# Altium footprint library SWITCH.PCBLIB: 95 footprints (part 2 of 6)
Each footprint in its own frame and in the unit in brackets; x right, y up, seen from the top. Pads: shape width x height; smd on the part's side, far side on the other; paste and mask are expansions set on the pad; w line width, h text height; cw(c..) or ccw(c..) is an arc to the next point about the centre after c.
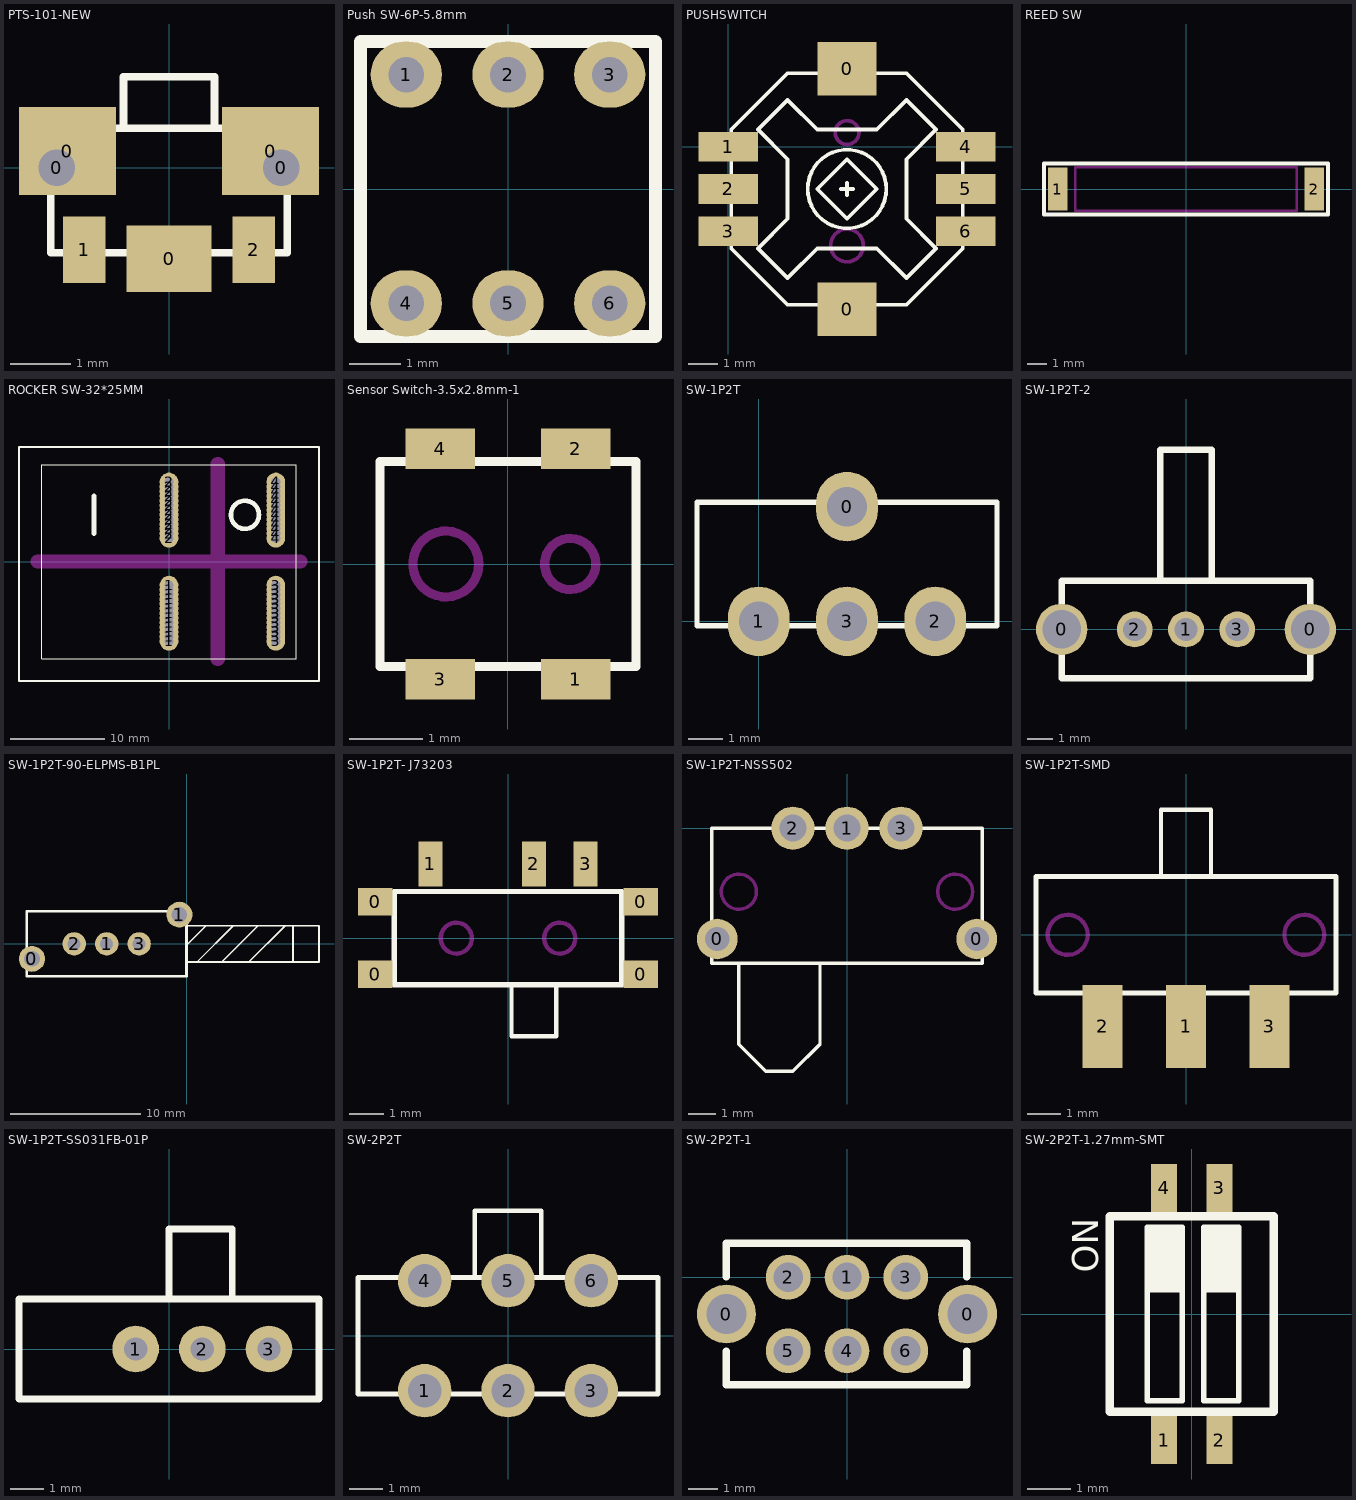
[diagram p1: the footprints below, top view; thin cyan lines are the x and y axes]

## PTS-101-NEW [mm] "PTS-101-NEW"
pads (7):
  round 0.7 hole 0.6: 0(-1.85,0) 0(1.85,0)
  rect 1.6x1.45 smd: 0(-1.675,0.275) 0(1.675,0.275)
  rect 1.4x1.1 smd: 0(0,-1.5)
  rect 0.7x1.1 smd: 1(-1.4,-1.35) 2(1.4,-1.35)
TopOverlay:
  lines w0.127: -0.75,0.65 -0.75,1.5 0.75,1.5 0.75,0.65 ; 1.95,-1.4 -1.95,-1.4 -1.95,0.65 1.95,0.65 1.95,-1.375

## Push SW-6P-5.8mm [mm] "Push SW-6P-5.8mm"
pads (6):
  oval 1.4x1.3 hole 0.7: 1(-2,2.25) 2(0,2.25) 3(2,2.25) 4(-2,-2.25) 5(0,-2.25) 6(2,-2.25)
TopOverlay:
  lines w0.254: -2.9,-2.9 -2.9,2.9 2.9,2.9 2.9,-2.9 -2.9,-2.9

## PUSHSWITCH [mm]
pads (8):
  rect 2x1.8 smd: 0(4,-5.475) 0(4,2.625)
  rect 2x1 smd: 1(0,0) 2(0,-1.425) 3(0,-2.85) 4(8,0) 5(8,-1.425) 6(8,-2.85)
TopOverlay:
  circle w0.127: c4,-1.425 r1.324
  lines w0.127: 3.8,-1.425 4.2,-1.425 ; 4,-1.625 4,-1.225 ; 6,1.575 5,0.575 3,0.575 2,1.575 1,0.575 2,-0.425 2,-2.425 1,-3.425 2,-4.425 3,-3.425 5,-3.425 6,-4.425 7,-3.425 6,-2.425 6,-0.425 7,0.575 ; 6,1.575 6,1.575 ; 6,1.575 7,0.575 ; 7,0.575 7,0.575 ; 0.1,-3.425 2,-5.325 6,-5.325 7.9,-3.425 7.9,0.575 6,2.475 2,2.475 0.1,0.575 0.1,-3.425 ; 3,-1.425 4,-0.425 5,-1.425 4,-2.425 3,-1.425
KeepOutLayer:
  circle w0.127: c4,0.475 r0.4
  circle w0.127: c4,-3.325 r0.55

## REED SW [mm]
pads (2):
  rect 1x2.2 smd: 1(-6.5,0) 2(6.5,0)
TopOverlay:
  lines w0.2: -7.2,-1.3 7.2,-1.3 7.2,1.3 -7.2,1.3 -7.2,-1.3
KeepOutLayer:
  lines w0.127: -5.6,-1.1 5.6,-1.1 5.6,1.1 -5.6,1.1 -5.6,-1.1

## ROCKER SW-32*25MM [mm]
pads (52):
  round 2 hole 1: 1(0,-8.5) 1(0,-8) 1(0,-7.5) 1(0,-7) 1(0,-6.5) 1(0,-6) 1(0,-5.5) 1(0,-5) 1(0,-4.5) 1(0,-4) 1(0,-3.5) 1(0,-3) 1(0,-2.5) 2(0,2.5) 2(0,3) 2(0,3.5) 2(0,4) 2(0,4.5) 2(0,5) 2(0,5.5) 2(0,6) 2(0,6.5) 2(0,7) 2(0,7.5) 2(0,8) 2(0,8.5) 3(11.4,-8.5) 3(11.4,-8) 3(11.4,-7.5) 3(11.4,-7) 3(11.4,-6.5) 3(11.4,-6) 3(11.4,-5.5) 3(11.4,-5) 3(11.4,-4.5) 3(11.4,-4) 3(11.4,-3.5) 3(11.4,-3) 3(11.4,-2.5) 4(11.4,2.5) 4(11.4,3) 4(11.4,3.5) 4(11.4,4) 4(11.4,4.5) 4(11.4,5) 4(11.4,5.5) 4(11.4,6) 4(11.4,6.5) 4(11.4,7) 4(11.4,7.5) 4(11.4,8) 4(11.4,8.5)
TopOverlay:
  circle w0.5: c8.1,5 r1.5
  lines w0.127: -13.6,-10.35 13.6,-10.35 13.6,10.35 -13.6,10.35 -13.6,-10.35
  lines w0.2: -16,-12.75 -16,12.25 16,12.25 16,-12.75 -16,-12.75
  lines w0.5: -8,3 -8,7
KeepOutLayer:
  lines w1.5: -14,0 14,0 ; 5.2,-10.4 5.2,10.4

## Sensor Switch-3.5x2.8mm-1 [mm] "Sensor Switch-3.5x2.8mm-1"
pads (4):
  rect 0.95x0.55 smd: 1(0.925,-1.575) 2(0.925,1.575) 3(-0.925,-1.575) 4(-0.925,1.575)
TopOverlay:
  lines w0.127: -1.75,-1.4 -1.75,1.4 1.75,1.4 1.75,-1.4 -1.75,-1.4
KeepOutLayer:
  circle w0.127: c0.85,0 r0.35
  circle w0.127: c-0.85,0 r0.45

## SW-1P2T [mil]
pads (4):
  oval 70x78.74 hole 45: 0(100,130) 1(0,0) 2(200,0) 3(100,0.04)
TopOverlay:
  lines w6: -70,-5 270,-5 270,135 -70,135 -70,-5

## SW-1P2T-2 [mm]
pads (5):
  round 2 hole 1.5: 0(-4.85,0) 0(4.85,0)
  round 1.4 hole 0.9: 1(0,0) 2(-2,0) 3(2,0)
TopOverlay:
  lines w0.254: -1,1.9 -1,7 1,7 1,1.9 ; -4.85,-1.9 4.85,-1.9 4.85,1.9 -4.85,1.9 -4.85,-1.9

## SW-1P2T-90-ELPMS-B1PL [mm]
pads (5):
  round 2 hole 1.2: 0(-11.9,-1.15) 1(-0.55,2.25)
  round 1.8 hole 1: 1(-6.15,0) 2(-8.65,0) 3(-3.65,0)
TopOverlay:
  lines w0.127: 0,-1.4 10.2,-1.4 10.2,1.4 0,1.4 ; 0,-0.1 1.5,1.4 ; 0.8,-1.4 3.6,1.4 ; 2.7,-1.4 5.5,1.4 ; 4.8,-1.4 7.6,1.4 ; 8.2,-1.4 8.2,1.4
  lines w0.2: -12.3,-2.5 0,-2.5 0,2.5 -12.3,2.5 -12.3,-2.5

## SW-1P2T- J73203 [mm] "SW-1P2T- J73203"
pads (7):
  rect 1x0.8 smd: 0(-3.85,-1.05) 0(-3.85,1.05) 0(3.85,-1.05) 0(3.85,1.05)
  rect 0.7x1.3 smd: 1(-2.25,2.15) 2(0.75,2.15) 3(2.25,2.15)
TopOverlay:
  lines w0.127: 0.1,-1.35 0.1,-2.85 1.4,-2.85 1.4,-1.35
  lines w0.152: -3.3,-1.35 -3.3,1.35 3.3,1.35 3.3,-1.35 -3.3,-1.35
KeepOutLayer:
  circle w0.127: c-1.5,0 r0.45
  circle w0.127: c1.5,0 r0.45

## SW-1P2T-NSS502 [mm]
pads (5):
  round 1.5 hole 0.9: 0(-4.8,-4.1) 0(4.8,-4.1)
  round 1.6 hole 1: 1(0,0) 2(-2,0) 3(2,0)
TopOverlay:
  lines w0.127: -4,-5 -4,-8 -3,-9 -2,-9 -1,-8 -1,-5 ; -5,-5 -5,0 5,0 5,-5 -5,-5
KeepOutLayer:
  circle w0.127: c-4,-2.35 r0.65
  circle w0.127: c4,-2.35 r0.65

## SW-1P2T-SMD [mm]
pads (3):
  rect 1.2x2.5 smd: 1(0,-2.75) 2(-2.5,-2.75) 3(2.5,-2.75)
TopOverlay:
  lines w0.127: -0.75,1.75 -0.75,3.75 0.75,3.75 0.75,1.75
  lines w0.152: -4.5,-1.75 -4.5,1.75 4.5,1.75 4.5,-1.75 -4.5,-1.75
KeepOutLayer:
  circle w0.127: c-3.55,0 r0.6
  circle w0.127: c3.55,0 r0.6

## SW-1P2T-SS031FB-01P [mm]
pads (3):
  round 1.4 hole 0.7: 1(-1,0) 2(1,0) 3(3,0)
TopOverlay:
  lines w0.2: 0,1.5 0,3.6 1.9,3.6 1.9,1.5 ; -4.5,-1.5 4.5,-1.5 4.5,1.5 -4.5,1.5 -4.5,-1.5

## SW-2P2T [mm]
pads (6):
  round 1.6 hole 1: 1(-2.5,-1.65) 2(0,-1.65) 3(2.5,-1.65) 4(-2.5,1.65) 5(0,1.65) 6(2.5,1.65)
TopOverlay:
  lines w0.127: -1,1.75 -1,3.75 1,3.75 1,1.75
  lines w0.152: -4.5,-1.75 4.5,-1.75 4.5,1.75 -4.5,1.75 -4.5,-1.75

## SW-2P2T-1 [mm]
pads (8):
  round 2 hole 1.35: 0(-4.1,-1.25) 0(4.1,-1.25)
  round 1.524 hole 1: 1(0,0) 2(-2,0) 3(2,0) 4(0,-2.5) 5(-2,-2.5) 6(2,-2.5)
TopOverlay:
  lines w0.254: -4.1,-2.52 -4.1,-3.65 4.079,-3.65 4.079,-2.52 ; -4.1,0.02 -4.1,1.15 4.079,1.15 4.079,0.02

## SW-2P2T-1.27mm-SMT [mm] "SW-2P2T-1.27mm-SMT"
pads (4):
  rect 0.6x1.1 smd: 1(-0.635,-2.9) 2(0.635,-2.9) 3(0.635,2.9) 4(-0.635,2.9)
TopOverlay:
  rectangle: -1.02,0.5 -0.22,2
  rectangle: 0.28,0.5 1.08,2
  lines w0.127: -1.02,-2 -1.02,2 -0.22,2 -0.22,-2 -1.02,-2 ; 0.28,-2 0.28,2 1.08,2 1.08,-2 0.28,-2
  lines w0.2: -1.885,-2.25 1.885,-2.25 1.885,2.25 -1.885,2.25 -1.885,-2.25
  text "ON" at -2.15,0.95 h0.6